# EAGLE library part MMC5983MA (library MMC5983MA)
3-AXIS MAGNETIC SENSOR Source: Datasheet
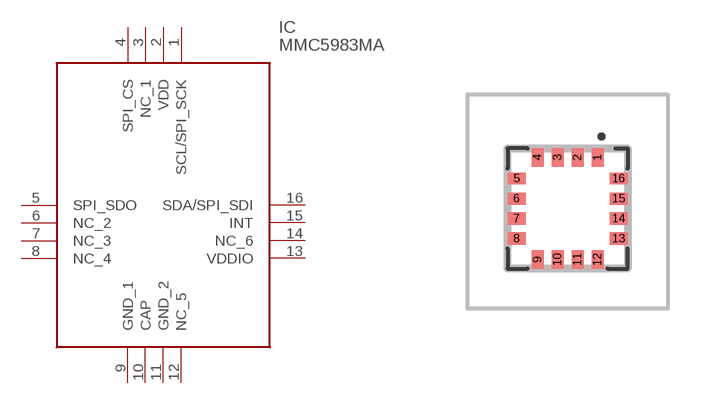
[diagram p0: symbol with the pads of MMC5983MA; footprint MMC5983MA]

Designator prefix IC

## MMC5983MA (Description: 3-AXIS MAGNETIC SENSOR; Height: 1mm; Manufacturer_Name: MEMSIC; Manufacturer_Part_Number: MMC5983MA; Mouser_Part_Number: 438-MMC5983MA; Mouser_Price-Stock: https://www.mouser.co.uk/ProductDetail/MEMSIC/MMC5983MA?qs=B6kkDfuK7%2FD5qasHMdEt2g%3D%3D)  [MMC5983MA]
1  SCL/SPI_SCK
2  VDD
3  NC_1
4  SPI_CS
5  SPI_SDO
6  NC_2
7  NC_3
8  NC_4
9  GND_1
10  CAP
11  GND_2
12  NC_5
13  VDDIO
14  NC_6
15  INT
16  SDA/SPI_SDI

## Footprint MMC5983MA (pad centres in mm)
MMC5983MA-7
smd 0.3 x 0.45: 1 0.75,1.275; 2 0.25,1.275; 3 -0.25,1.275; 4 -0.75,1.275; 9 -0.75,-1.275; 10 -0.25,-1.275; 11 0.25,-1.275; 12 0.75,-1.275
smd 0.45 x 0.3: 5 -1.275,0.75; 6 -1.275,0.25; 7 -1.275,-0.25; 8 -1.275,-0.75; 13 1.275,-0.75; 14 1.275,-0.25; 15 1.275,0.25; 16 1.275,0.75